# Altium footprint library EVU-F2LFL3B24.PcbLib: 1 footprints
Each footprint in its own frame and in the unit in brackets; x right, y up, seen from the top. Pads: shape width x height; smd on the part's side, far side on the other; paste and mask are expansions set on the pad; w line width, h text height; cw(c..) or ccw(c..) is an arc to the next point about the centre after c.
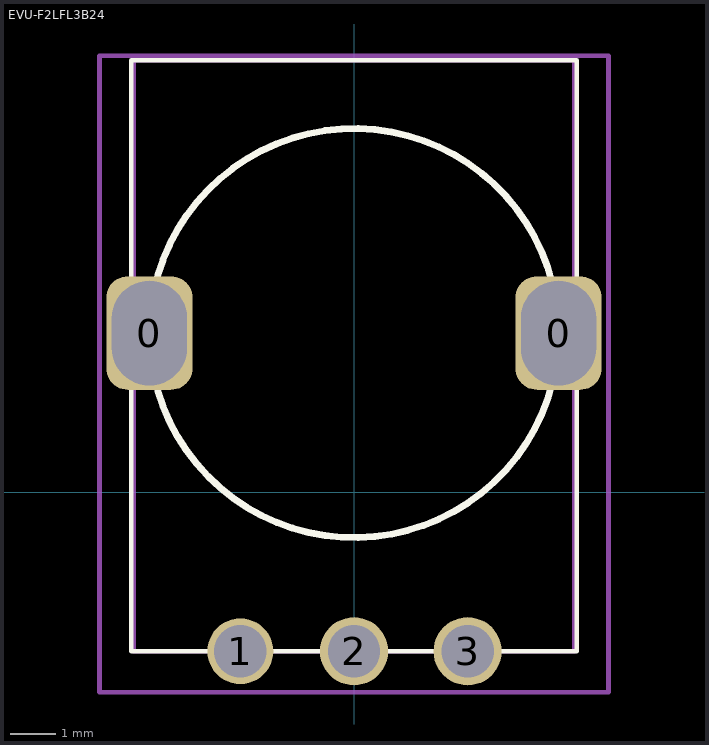
[diagram p0: the footprint, top view; thin cyan lines are the x and y axes]

## EVU-F2LFL3B24 [mm] "20K Pot"
height 21.5
pads (5):
  rrect50% 1.9x2.5 hole 1.65 slot 2.3 at 90 deg: 0(-4.5,3.5) 0(4.5,3.5)
  round 1.45 hole 1.15: 1(-2.5,-3.5)
  round 1.5 hole 1.15: 2(0,-3.5) 3(2.5,-3.5)
Top Overlay:
  circle w0.15: c0,3.5 r4.5
  lines w0.102: -4.9,-3.5 -4.9,9.5 4.9,9.5 4.9,-3.5 -4.9,-3.5
Mechanical 1:
  text ".Designator" at 0,-1.5 h1
Mechanical 13:
  lines w0.102: -4.85,-3.5 -4.85,9.5 4.85,9.5 4.85,-3.5 -4.85,-3.5
Mechanical 15:
  lines w0.102: -5.6,-4.4 -5.6,9.6 5.6,9.6 5.6,-4.4 -5.6,-4.4
3D body: height 30, standoff 13.5, extent -2.976,0.506 3,6.494
3D body: height 13.5, standoff 8.5, extent -3.968,-0.492 4,7.492
3D body: height 8.5, standoff 0, extent -4.85,-3.5 4.85,9.5